# Altium footprint library Terminal Blocks.PcbLib: 7 footprints
Each footprint in its own frame and in the unit in brackets; x right, y up, seen from the top. Pads: shape width x height; smd on the part's side, far side on the other; paste and mask are expansions set on the pad; w line width, h text height; cw(c..) or ccw(c..) is an arc to the next point about the centre after c.
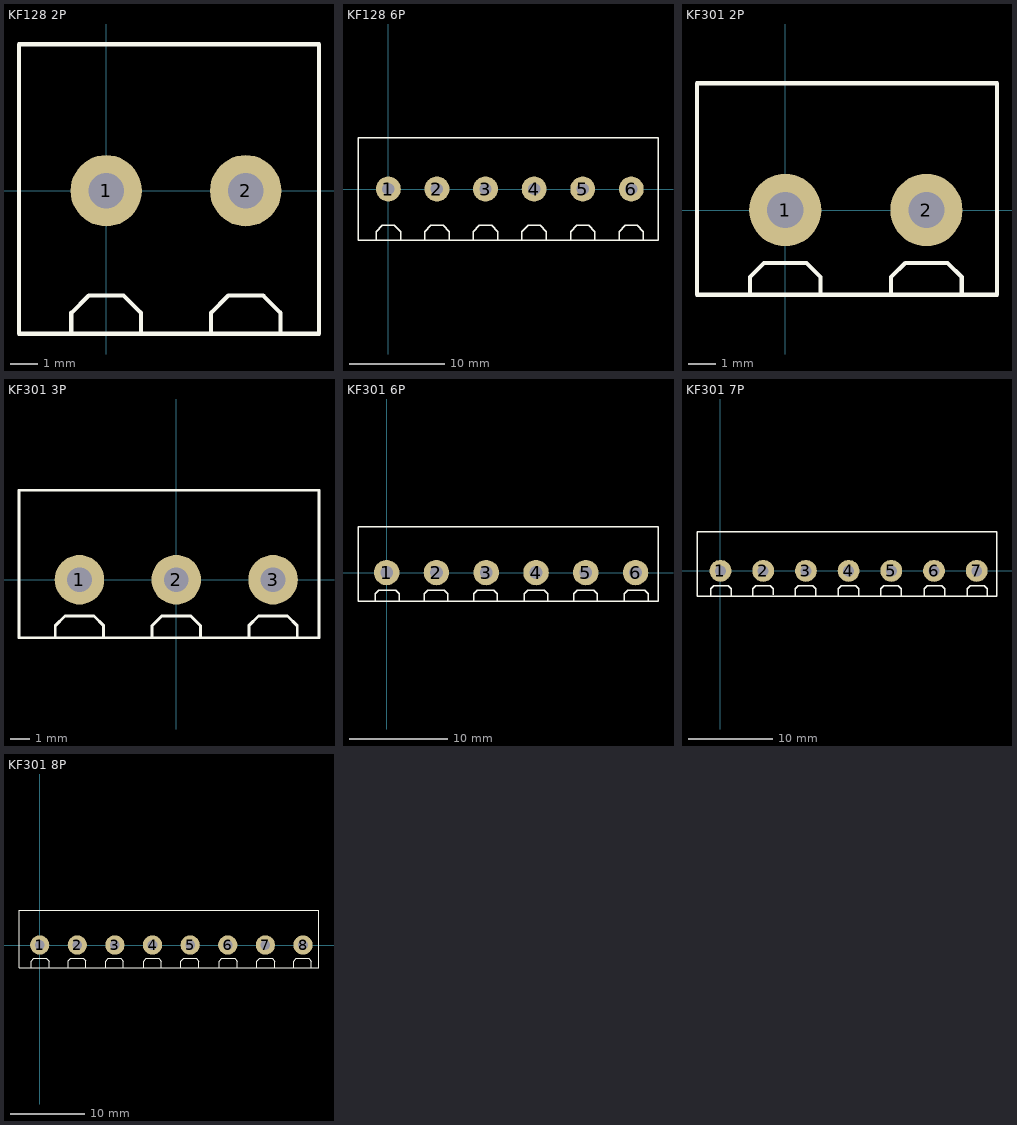
[diagram p0: the footprints below, top view; thin cyan lines are the x and y axes]

## KF128 2P [mm] "2 Position Wire to Board Terminal Block Horizontal with Board 0.200\" (5.08mm) Through Hole"
pads (2):
  round 2.6 hole 1.3: 1(0,0) 2(5.08,0)
Top Overlay:
  lines w0.152: -1.27,-5.207 -1.27,-4.445 -0.635,-3.81 0.635,-3.81 1.27,-4.445 1.27,-5.207 ; 3.81,-5.207 3.81,-4.445 4.445,-3.81 5.715,-3.81 6.35,-4.445 6.35,-5.207 ; -3.175,-5.207 -3.175,5.334 7.747,5.334 7.747,-5.207 -3.175,-5.207
3D body "Terminal Block 2P 5.08mm pitch tall.step": height 14.31, standoff -4.99, extent -3.094,-5.258 7.666,5.242

## KF128 6P [mm] "6 Position Wire to Board Terminal Block Horizontal with Board 0.200\" (5.08mm) Through Hole"
pads (6):
  round 2.6 hole 1.3: 1(0,0) 2(5.08,0) 3(10.16,0) 4(15.24,0) 5(20.32,0) 6(25.4,0)
Top Overlay:
  lines w0.152: -1.27,-5.334 -1.27,-4.445 -0.635,-3.81 0.635,-3.81 1.27,-4.445 1.27,-5.334 ; 3.81,-5.334 3.81,-4.445 4.445,-3.81 5.715,-3.81 6.35,-4.445 6.35,-5.334 ; 8.89,-5.334 8.89,-4.445 9.525,-3.81 10.795,-3.81 11.43,-4.445 11.43,-5.334 ; 13.97,-5.334 13.97,-4.445 14.605,-3.81 15.875,-3.81 16.51,-4.445 16.51,-5.334 ; 19.05,-5.334 19.05,-4.445 19.685,-3.81 20.955,-3.81 21.59,-4.445 21.59,-5.334 ; 24.13,-5.334 24.13,-4.445 24.765,-3.81 26.035,-3.81 26.67,-4.445 26.67,-5.334 ; -3.175,-5.334 -3.175,5.334 28.194,5.334 28.194,-5.334 -3.175,-5.334
3D body "Terminal Block 6P 5.08mm pitch tall.STEP": height 14.31, standoff -4.99, extent -3.048,-5.301 28.032,5.199

## KF301 2P [mm] "2 Position Wire to Board Terminal Block Horizontal with Board 0.200\" (5.08mm) Through Hole"
pads (2):
  round 2.6 hole 1.3: 1(0,0) 2(5.08,0)
Top Overlay:
  lines w0.152: -1.27,-3.048 -1.27,-2.413 -0.762,-1.905 0.762,-1.905 1.27,-2.413 1.27,-3.048 ; 3.81,-3.048 3.81,-2.413 4.318,-1.905 5.842,-1.905 6.35,-2.413 6.35,-3.048 ; -3.175,-3.048 -3.175,4.562 7.62,4.562 7.62,-3.048 -3.175,-3.048
3D body "Terminal Block 2P 5.08mm pitch short.step": height 10.01, standoff -2.99, extent -3.06,-3.038 7.54,4.562

## KF301 3P [mm] "3 Position Wire to Board Terminal Block Horizontal with Board 0.200\" (5.08mm) Through Hole"
pads (3):
  round 2.6 hole 1.3: 1(-5.08,0) 2(0,0) 3(5.08,0)
Top Overlay:
  lines w0.152: -6.35,-3.048 -6.35,-2.413 -5.842,-1.905 -4.318,-1.905 -3.81,-2.413 -3.81,-3.048 ; -1.27,-3.048 -1.27,-2.413 -0.762,-1.905 0.762,-1.905 1.27,-2.413 1.27,-3.048 ; 3.81,-3.048 3.81,-2.413 4.318,-1.905 5.842,-1.905 6.35,-2.413 6.35,-3.048 ; -8.255,-3.048 7.493,-3.048 7.493,4.699 -8.255,4.699 -8.255,-3.048
3D body "Terminal Block 3P 5.08mm pitch short.step": height 10, standoff -3, extent -8.14,-3 7.46,4.6

## KF301 6P [mm] "6 Position Wire to Board Terminal Block Horizontal with Board 0.200\" (5.08mm) Through Hole"
pads (6):
  round 2.6 hole 1.3: 1(0,0) 2(5.08,0) 3(10.16,0) 4(15.24,0) 5(20.32,0) 6(25.4,0)
Top Overlay:
  lines w0.152: -1.143,-2.921 -1.143,-2.159 -0.787,-1.803 0.914,-1.803 1.27,-2.159 1.27,-2.896 ; 3.835,-2.896 3.835,-2.134 4.191,-1.778 5.893,-1.778 6.248,-2.134 6.248,-2.87 ; 8.89,-2.921 8.89,-2.159 9.246,-1.803 10.947,-1.803 11.303,-2.159 11.303,-2.896 ; 14.021,-2.921 14.021,-2.159 14.376,-1.803 16.078,-1.803 16.434,-2.159 16.434,-2.896 ; 19.075,-2.921 19.075,-2.159 19.431,-1.803 21.133,-1.803 21.488,-2.159 21.488,-2.896 ; 24.257,-2.921 24.257,-2.159 24.613,-1.803 26.314,-1.803 26.67,-2.159 26.67,-2.896 ; -2.921,-2.921 -2.921,4.674 27.686,4.674 27.686,-2.921 -2.921,-2.921
3D body "Terminal Block 6P 5.08mm pitch short.STEP": height 10.01, standoff -2.99, extent -2.914,-2.911 27.686,4.689

## KF301 7P [mm] "7 Position Wire to Board Terminal Block Horizontal with Board 0.200\" (5.08mm) Through Hole"
pads (7):
  round 2.6 hole 1.3: 1(0,0) 2(5.08,0) 3(10.16,0) 4(15.24,0) 5(20.32,0) 6(25.4,0) 7(30.48,0)
Top Overlay:
  lines w0.152: -1.143,-2.921 -1.143,-2.159 -0.787,-1.803 0.914,-1.803 1.27,-2.159 1.27,-2.896 ; 3.835,-2.896 3.835,-2.134 4.191,-1.778 5.893,-1.778 6.248,-2.134 6.248,-2.87 ; 8.89,-2.921 8.89,-2.159 9.246,-1.803 10.947,-1.803 11.303,-2.159 11.303,-2.896 ; 14.021,-2.921 14.021,-2.159 14.376,-1.803 16.078,-1.803 16.434,-2.159 16.434,-2.896 ; 19.075,-2.921 19.075,-2.159 19.431,-1.803 21.133,-1.803 21.488,-2.159 21.488,-2.896 ; 24.257,-2.921 24.257,-2.159 24.613,-1.803 26.314,-1.803 26.67,-2.159 26.67,-2.896 ; 29.337,-2.921 29.337,-2.159 29.693,-1.803 31.394,-1.803 31.75,-2.159 31.75,-2.896 ; -2.794,-3.048 32.893,-3.048 32.893,4.674 -2.794,4.674 -2.794,-3.048
3D body "Terminal Block 7P 5.08mm pitch short.STEP": height 10.01, standoff -2.99, extent -2.707,-3.038 32.893,4.562

## KF301 8P [mm] "8 Position Wire to Board Terminal Block Horizontal with Board 0.200\" (5.08mm) Through Hole"
pads (8):
  round 2.6 hole 1.3: 1(0,0) 2(5.08,0) 3(10.16,0) 4(15.24,0) 5(20.32,0) 6(25.4,0) 7(30.48,0) 8(35.56,0)
Top Overlay:
  lines w0.152: -1.143,-3.048 -1.143,-2.159 -0.787,-1.803 0.914,-1.803 1.27,-2.159 1.27,-3.048 ; 3.835,-3.048 3.835,-2.134 4.191,-1.778 5.893,-1.778 6.248,-2.134 6.248,-3.048 ; 8.89,-3.048 8.89,-2.159 9.246,-1.803 10.947,-1.803 11.303,-2.159 11.303,-3.048 ; 13.97,-3.048 14.021,-2.997 14.021,-2.159 14.376,-1.803 16.078,-1.803 16.434,-2.159 16.434,-2.997 16.383,-3.048 ; 19.075,-3.048 19.075,-2.159 19.431,-1.803 21.133,-1.803 21.488,-2.159 21.488,-3.048 ; 24.257,-3.048 24.257,-2.159 24.613,-1.803 26.314,-1.803 26.67,-2.159 26.67,-3.048 ; 29.337,-3.048 29.337,-2.159 29.693,-1.803 31.394,-1.803 31.75,-2.159 31.75,-3.048 ; 34.29,-3.048 34.29,-2.159 34.646,-1.803 36.347,-1.803 36.703,-2.159 36.703,-3.048 ; -2.794,-3.048 37.719,-3.048 37.719,4.674 -2.794,4.674 -2.794,-3.048
3D body "Terminal Block 8P 5.08mm pitch short.STEP": height 10.01, standoff -2.99, extent -2.896,-2.987 37.704,4.613